# Altium schematic symbol library YH_Design.SchLib: 153 symbols (part 3 of 3)
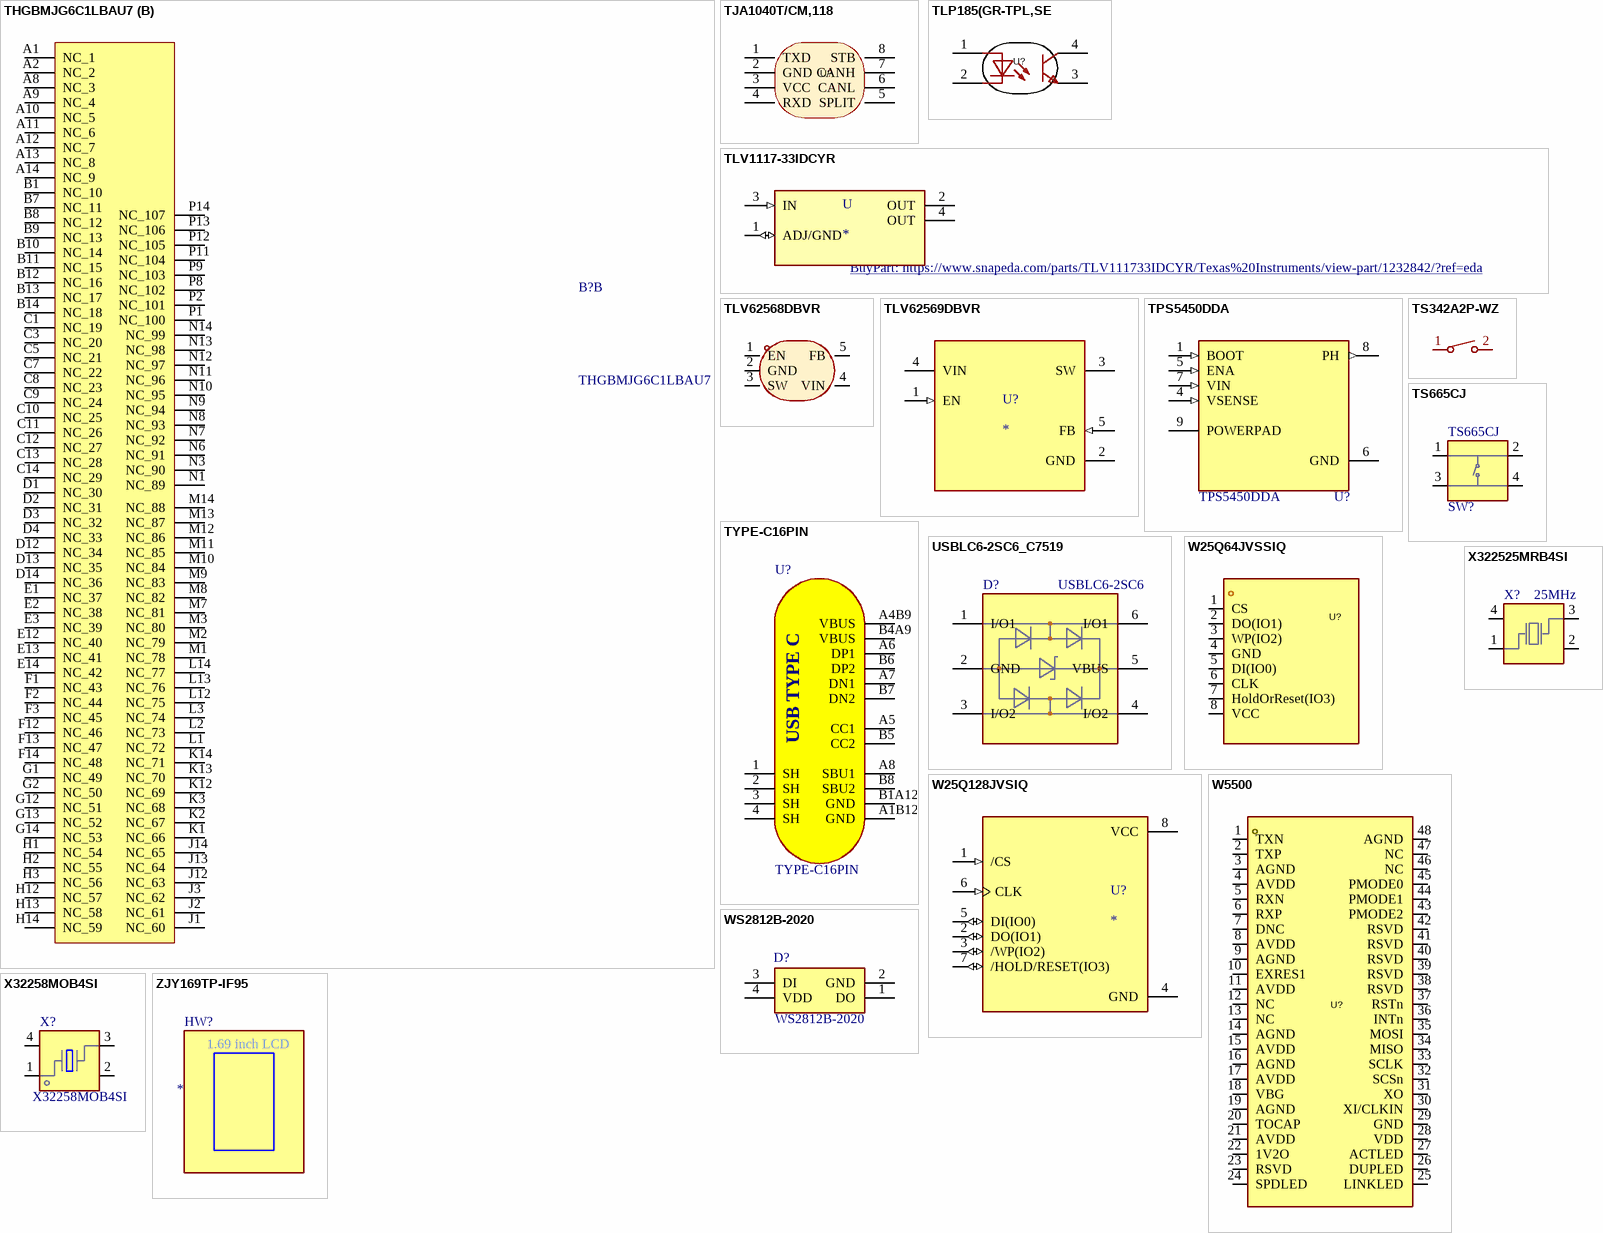
[diagram p9: symbols THGBMJG6C1LBAU7 to ZJY169TP-IF95]

## TLP185(GR-TPL,SE
designator U?, comment TLP185(SE)  (value not drawn)
Manufacturer: TOSHIBA(东芝); Symbol: TLP185(GR-TPL,SE; Add into BOM: yes; Input voltage type: DC; Output Type: 光电三极管; Forward Voltage: 1.25V; Output Current: 50mA; Isolation Voltage(rms): 3.75kV; Reverse Voltage: 5V; Receiving End Voltage: 80V; Number of Outputs: 1; Collector-Emitter Saturation Voltage (Vce(sat)@Ic,IF): 300mV@2.4mA,8mA; Rise time: 2us@2mA,100Ω; Fall time: 3us@2mA,100Ω; Device: TLP185(GR-TPL,SE; LCSC Part Name: DC输入 隔离电压(rms):3750V; Supplier Part: C128776; Manufacturer Part: TLP185(GR-TPL,SE; Supplier Footprint: SOP-4-2.54mm; JLCPCB Part Class: Extended Part; Datasheet: https://atta.szlcsc.com/upload/public/pdf/source/20180528/C128776_56D1981D0A0F220B5371EA0B55044491.pdf; Supplier: LCSC; Convert to PCB: yes; Operating Temperature: -55℃~+110℃
footprint SMD-4_L4.6-W3.7-P2.54-LS7.0-BR
3D model SMD-4_L3.7-W4.6-H2.2-LS7.0-P2.54
pins: 1, 2, 3, 4

## TLV1117-33IDCYR
designator U
Linear Voltage Regulator IC 1 Output 800mA SOT-223-4; MP: TLV111733IDCYR; MF: Texas Instruments; Value: *; SnapEDA_Link: https://www.snapeda.com/parts/TLV111733IDCYR/Texas%20Instruments/view-part/1232842/?ref=snap; Package: None; BuyPart: https://www.snapeda.com/parts/TLV111733IDCYR/Texas%20Instruments/view-part/1232842/?ref=eda
footprint SOT230P700X180-4N
pins: 1 ADJ/GND (io), 2 OUT (power), 3 IN (in), 4 OUT (power)

## TLV62568DBVR
designator U?  (value not drawn)
DC-DC Buck 1A; Manufacturer: TI(德州仪器); Add into BOM: yes; Function: 降压型; Output Type: 可调; Input Voltage: 2.5V~5.5V; Output Voltage: 600mV~5.5V; Switching Frequency: 1.5MHz; Synchronous Rectification: 是; Number of Outputs: 1; Topology: 降压式; Switch tube (built-in/external): 内置; Symbol: TLV62568DBVR; Device: TLV62568DBVR; LCSC Part Name: 1A高效同步降压转换器; Supplier Part: C163219; Manufacturer Part: TLV62568DBVR; Supplier Footprint: SOT-23-5; JLCPCB Part Class: Extended Part; Datasheet: https://www.ti.com/cn/lit/gpn/tlv62568; Supplier: LCSC; Convert to PCB: yes; Output Current: 1A; Operating Temperature: -40℃~+125℃@(TJ)
footprint SOT-23-5_L3.0-W1.7-P0.95-LS2.8-BR
3D model SOT-23-5_L2.9-W1.6-H1.1-LS2.8-P0.95
pins: 1 EN, 2 GND, 3 SW, 4 VIN, 5 FB

## TLV62569DBVR
designator U?
DC-DC Buck 2A; Mfr_Name: Texas Instruments; TYPE: TYPE; RefDes: RefDes
footprint DDC0006A_N
footprint SOT-23-5_L3.0-W1.7-P0.95-LS2.8-BL
pins: 1 EN (in), 2 GND (power), 3 SW (power), 4 VIN (power), 5 FB (in)

## TPS5450DDA
designator U?
5.5V to 36V Input, 5A, 500kHz Step Down Converter; MF: Texas Instruments; SnapEDA_Link: https://www.snapeda.com/parts/TPS5450DDA/Texas+Instruments/view-part/?ref=snap; Package: HSOIC-8 Texas Instruments; Value: *; MP: TPS5450DDA; Check_prices: https://www.snapeda.com/parts/TPS5450DDA/Texas+Instruments/view-part/?ref=eda
footprint VREG_LM5017MR/NOPB
pins: 1 BOOT (in), 4 VSENSE (in), 5 ENA (in), 6 GND (power), 7 VIN (in), 8 PH (out), 9 POWERPAD

## TS342A2P-WZ
designator SW?  (value not drawn)
Manufacturer: SHOU HAN(首韩); Add into BOM: yes; Circuit: 单刀单掷; Actuator Style: 圆形按钮; Switch Length: 3.95mm; Switch Width: 2.9mm; Switch Height: 2mm; Strike Gundam: 不带; Contact Current: 50mA; Voltage Rating (DC): 12V; Insulation Resistance: 100MΩ; Actuator/Cap Color: 黑色; Pin Style: SMD接片; Mechanical Life: 3万次; Symbol: TS342A2P-WZ; Device: TS342A2P-WZ; LCSC Part Name: 3.95*2.9*2mm 立贴 轻触开关; Supplier Part: C557591; Manufacturer Part: TS342A2P-WZ; Supplier Footprint: SMD; JLCPCB Part Class: Extended Part; Datasheet: https://atta.szlcsc.com/upload/public/pdf/source/20200519/C557591_B3A5A21584733303F06306F18577DA8B.pdf; Supplier: LCSC; Convert to PCB: yes; Mounting Style: 立贴; Operating Temperature: -25℃~+70℃
footprint SW-SMD_L4.0-W2.9-LS5.0
3D model SW-SMD_L4.0-W2.9-H2-LS5.0
pins: 1, 2

## TS665CJ
designator SW?
6 x 6 mm, 5 mm Actuator Height, 100 gf, Black, Short Crimped, Through Hole, SPST, Tactile Switch; Manufacturer: SHOU HAN(首韩); Add into BOM: yes; Circuit: 单刀单掷; Actuator Style: 圆形按钮; Switch Length: 6mm; Switch Height: 5mm; Contact Current: 50mA; Voltage Rating (DC): 12V; Symbol: TS665CJ; Device: TS665CJ; LCSC Part Name: 6*6*5mm 直插 轻触开关; Supplier Part: C393938; Manufacturer Part: TS665CJ; Supplier Footprint: 插件; JLCPCB Part Class: Extended Part; Datasheet: https://atta.szlcsc.com/upload/public/pdf/source/20190521/C393938_BDABEAC600B4C55E200A80AA129B70BC.pdf; Supplier: LCSC; Convert to PCB: yes; Mounting Style: 直插; Switch Width: 6mm; With Lamp: -; Mechanical Life: -
footprint SW-TH_4P-L6.0-W6.0-P4.50-LS6.5
3D model SW-TH_4P-L6.0-W6.0-H5.0-LS6.5-P4.50
pins: 1 A, 2 B, 3 C, 4 D

## TYPE-C16PIN
designator U?
USB Type-C Connector; Manufacturer: SHOU HAN(首韩); Add into BOM: yes; Gender: 母; Number of Contacts: 16P; Number of Ports: 1; Current Rating - Power (Max): 3A; Rated Voltage (Max): 30V; Connect-Disconnect Life: 1万次; Core Colour: 黑色; Symbol: TYPE-C16PIN; Device: TYPE-C16PIN; LCSC Part Name: Type-C 母 卧贴; Supplier Part: C393939; Manufacturer Part: TYPE-C16PIN; Supplier Footprint: SMD; JLCPCB Part Class: Extended Part; Datasheet: https://atta.szlcsc.com/upload/public/pdf/source/20190521/C393939_7B9043D4CF1026AF443AB60D91FBCD5C.pdf; Supplier: LCSC; Convert to PCB: yes; Connector Type: Type-C; Standard: USB 3.1; Mounting Style: 卧贴; Operating Temperature Range: -40℃~+85℃
footprint USB-C-SMD_TYPE-C16PIN
3D model USB-C-SMD_TYPE-C16PIN
pins: 1 SH, 2 SH, 3 SH, 4 SH, A1B12 GND, A4B9 VBUS, A5 CC1, A6 DP1, A7 DN1, A8 SBU1, B1A12 GND, B4A9 VBUS, B5 CC2, B6 DP2, B7 DN2, B8 SBU2
text: USB TYPE C

## USBLC6-2SC6_C7519
designator D?, comment USBLC6-2SC6
Very low capacitance ESD protection; Manufacturer: ST(意法半导体); Device: USBLC6-2SC6_C7519; Add into BOM: yes; polarity: 单向; Reverse Stand-Off Voltage (Vrwm): 5.25V; Maximum Clamping Voltage: 17V; Peak Pulse Current (Ipp)@10/1000us: 5A; Breakdown Voltage: 6V; Number of Lines: 双路; Symbol: USBLC6-2SC6; LCSC Part Name: 单向ESD; Supplier Part: C7519; Manufacturer Part: USBLC6-2SC6; Supplier Footprint: SOT-23-6; JLCPCB Part Class: Extended Part; Datasheet: https://atta.szlcsc.com/upload/public/pdf/source/20140724/1457707160627.pdf; Supplier: LCSC; Convert to PCB: yes; Operating Temperature: -40℃~+125℃@(Tj); Type: ESD
footprint SOT-23-6_L2.9-W1.6-P0.95-LS2.8-BL
3D model SOT-23-6_L2.9-W1.6-H1.5-LS2.8-P0.95
pins: 1 I/O1, 2 GND, 3 I/O2, 4 I/O2, 5 VBUS, 6 I/O1

## W25Q64JVSSIQ
designator U?
Manufacturer: WINBOND(华邦); Symbol: W25Q64JVSSIQ_C179171; Device: W25Q64JVSSIQ; Add into BOM: yes; LCSC Part Name: W25Q64JVSSIQ; Supplier Part: C179171; Manufacturer Part: W25Q64JVSSIQ; Supplier Footprint: SOIC-8-208mil; JLCPCB Part Class: Extended Part; Datasheet: https://atta.szlcsc.com/upload/public/pdf/source/20191218/C179171_92C5C91D0324539EDD8F1160D2E79C0F.pdf; Supplier: LCSC; Convert to PCB: yes
footprint SOIC-8_L5.3-W5.3-P1.27-LS8.0-BL
pins: 1 CS, 2 DO(IO1), 3 WP(IO2), 4 GND, 5 DI(IO0), 6 CLK, 7 HoldOrReset(IO3), 8 VCC

## W25Q128JVSIQ
designator U?
FLASH - NOR Memory IC 128Mb (16M x 8) SPI - Quad I/O, QPI, DTR 133 MHz 8-SOIC; MF: Winbond Electronics; MP: W25Q128JVSIQ; SnapEDA_Link: https://www.snapeda.com/parts/W25Q128JVSIQ/Winbond/view-part/?ref=snap; Package: SOIC-8 Winbond Electronics; Value: *; Check_prices: https://www.snapeda.com/parts/W25Q128JVSIQ/Winbond/view-part/?ref=eda
footprint SOIC127P790X216-8N
pins: 1 /CS (in), 2 DO(IO1) (io), 3 /WP(IO2) (io), 4 GND (power), 5 DI(IO0) (io), 6 CLK (in), 7 /HOLD/RESET(IO3) (io), 8 VCC (power)

## W5500
designator U?  (value not drawn)
Hardwired TCP/IP embedded Ethernet controller; Manufacturer: WIZNET; Add into BOM: yes; Application Function: 控制器; Interface: SPI; Supply Voltage: 2.97V~3.63V; Supply Current: 132mA; Symbol: W5500; Device: W5500; LCSC Part Name: 硬连线TCP/IP嵌入式以太网控制器; Supplier Part: C32843; Manufacturer Part: W5500; Supplier Footprint: LQFP-48(7x7); JLCPCB Part Class: Extended Part; Datasheet: https://atta.szlcsc.com/upload/public/pdf/source/20230714/E10C32B058E0BA54FCE1C1556BE10C07.pdf; Supplier: LCSC; Convert to PCB: yes; Number of Channels: -; Operating Temperature: -40℃~+85℃
footprint LQFP-48_L7.0-W7.0-P0.50-LS9.0-BL
pins: 1 TXN, 2 TXP, 3 AGND, 4 AVDD, 5 RXN, 6 RXP, 7 DNC, 8 AVDD, 9 AGND, 10 EXRES1, 11 AVDD, 12 NC, 13 NC, 14 AGND, 15 AVDD, 16 AGND, 17 AVDD, 18 VBG, 19 AGND, 20 TOCAP, 21 AVDD, 22 1V2O, 23 RSVD, 24 SPDLED, 25 LINKLED, 26 DUPLED, 27 ACTLED, 28 VDD, 29 GND, 30 XI/CLKIN, 31 XO, 32 SCSn, 33 SCLK, 34 MISO, 35 MOSI, 36 INTn, 37 RSTn, 38 RSVD, 39 RSVD, 40 RSVD, 41 RSVD, 42 RSVD, 43 PMODE2, 44 PMODE1, 45 PMODE0, 46 NC, 47 NC, 48 AGND

## WS2812B-2020
designator D?
LED; SMD; 2020; RGB; 2x2x0.84mm; 3.75.3V; Lens: transparent; 2kHz; Manufacturer_Name: Worldsemi; Geometry.Height: 0.84mm; Manufacturer_Part_Number: WS2812B-2020; Mouser Part Number: *; Mouser Price/Stock: *; Arrow Part Number: *; Arrow Price/Stock: *; Datasheet Link: https://www.alldatasheet.com/datasheet-pdf/pdf/1134522/WORLDSEMI/WS2812B-2020.html
footprint WS2812B2020
pins: 1 DO, 2 GND, 3 DI, 4 VDD

## X32258MOB4SI
designator X?
crystal oscillator 8MHz ±10ppm 12pF; Manufacturer: YXC(扬兴晶振); Add into BOM: yes; Crystal Type: 贴片晶振; Frequency Stability(Full temperature range): ±20ppm; Equivalent Series Resistance (ESR): 150Ω; Symbol: X32258MOB4SI; Device: X32258MOB4SI; LCSC Part Name: 8MHz ±10ppm 12pF; Supplier Part: C2682775; Manufacturer Part: X32258MOB4SI; Supplier Footprint: SMD3225-4P; JLCPCB Part Class: Extended Part; Datasheet: https://atta.szlcsc.com/upload/public/pdf/source/20240329/19D5F850207469550BEB00D7DFEDBC7A.pdf; Supplier: LCSC; Convert to PCB: yes; Value: 8MHz; Normal temperature Frequency Tolerance: ±10ppm; External load capacitor: 12pF; Operating Temperature: -40℃~+85℃
footprint OSC-SMD_4P-L3.2-W2.5-BL
pins: 1, 2 GND, 3, 4 GND

## X322525MRB4SI
designator X?, comment 25MHz
crystal oscillator 25MHz ±10ppm 18pF; Manufacturer: YXC(扬兴晶振); Symbol: X322525MRB4SI; Add into BOM: yes; Frequency Stability: ±20ppm; Device: X322525MRB4SI; LCSC Part Name: 25MHz ±10ppm 18pF; Supplier Part: C70593; Manufacturer Part: X322525MRB4SI; Supplier Footprint: SMD3225-4P; JLCPCB Part Class: Extended Part; Datasheet: https://atta.szlcsc.com/upload/public/pdf/source/20240329/19D5F850207469550BEB00D7DFEDBC7A.pdf; Supplier: LCSC; Convert to PCB: yes; Type: 贴片晶振; Value: 25MHz; Normal temperature Frequency Tolerance: ±10ppm; Load Capacitance: 18pF; Operating Temperature: -40℃~+85℃
footprint OSC-SMD_4P-L3.2-W2.5-BL
pins: 1 OSC1, 2 GND, 3 OSC2, 4 GND

## ZJY169TP-IF95
designator HW?
footprint ZJY69TP-IF95 (1.69"IPS TFT)
text: 1.69 inch LCD